# Altium footprint library PCB - MISC - SERIAL_NR.PCBLIB: 1 footprints
Each footprint in its own frame and in the unit in brackets; x right, y up, seen from the top. Pads: shape width x height; smd on the part's side, far side on the other; paste and mask are expansions set on the pad; w line width, h text height; cw(c..) or ccw(c..) is an arc to the next point about the centre after c.
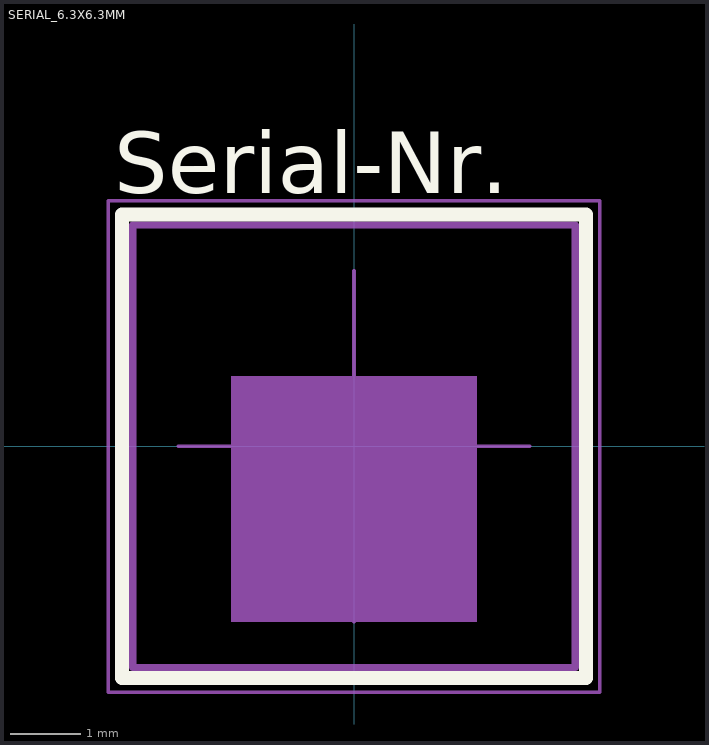
[diagram p0: the footprint, top view; thin cyan lines are the x and y axes]

## SERIAL_6.3X6.3MM [mm]
Top Overlay:
  lines w0.2: -3.3,-3.3 -3.3,3.3 3.3,3.3 3.3,-3.3 -3.3,-3.3
  text "Serial-Nr." at -3.41,3.31 h1.5
Top Assembly:
  region: 1.75,-2.5 1.75,1 -1.75,1 -1.75,-2.5
  lines w0.1: -3.15,-3.15 3.15,-3.15 3.15,3.15 -3.15,3.15 -3.15,-3.15
  text "SerialNr" at -2.5,1.7 h0.7
Top Courtyard:
  lines w0.05: -3.5,-3.5 3.5,-3.5 3.5,3.5 -3.5,3.5 -3.5,-3.5
Top Component Center:
  lines w0.05: -2.5,0 2.5,0 ; 0,-2.5 0,2.5